# EAGLE library part S25FL1 (library Cypress)
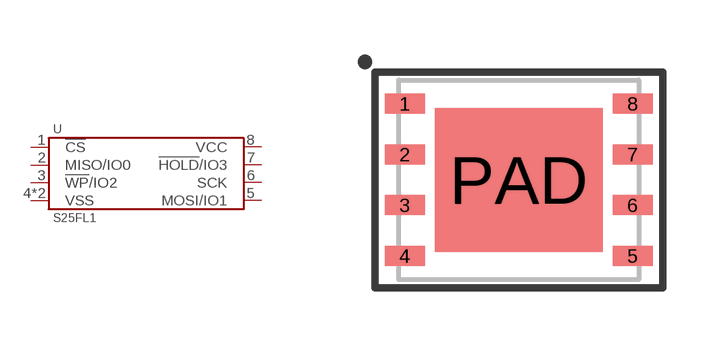
[diagram p1: symbol with the pads of WSON-8-5X6; footprint WSON-8-5X6]

Designator prefix U

## S25FL132K0XNFI011  [WSON-8-5X6]
1  !CS
2  MISO/IO0
3  !WP!/IO2
4  VSS
5  MOSI/IO1
6  SCK
7  !HOLD!/IO3
8  VCC
PAD  VSS

## Footprint WSON-8-5X6 (pad centres in mm)
smd 1 x 0.5: 1 -2.85,1.905; 2 -2.85,0.635; 3 -2.85,-0.635; 4 -2.85,-1.905; 5 2.85,-1.905; 6 2.85,-0.635; 7 2.85,0.635; 8 2.85,1.905
smd 4.2 x 3.6: PAD 0,0